# Altium schematic symbol library ISL26708IRTZ.SchLib: 1 symbol
Pins are listed as number, name and electrical type; pins without a type are passive.

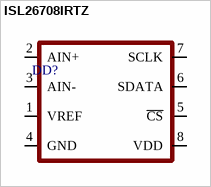
[diagram p0: symbol ISL26708IRTZ]

## ISL26708IRTZ
designator DD?
pins: 1 VREF, 2 AIN+, 3 AIN-, 4 GND, 5 ~{CS}, 6 SDATA, 7 SCLK, 8 VDD